# EAGLE library part MPXV7025DP (library MPXV7025)
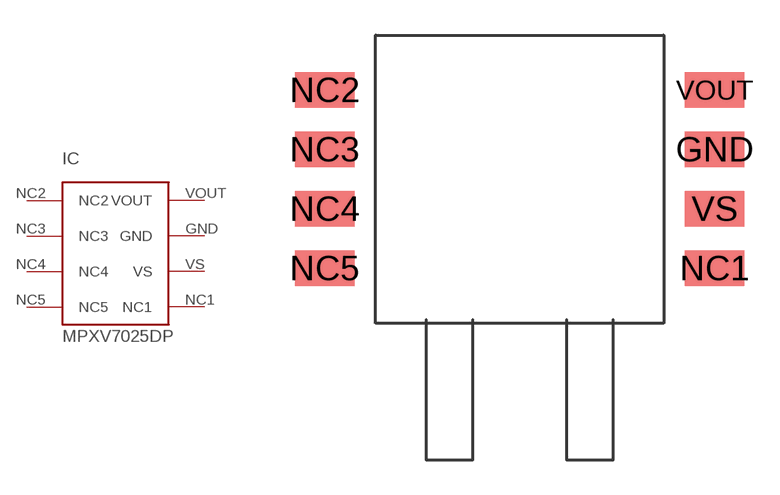
[diagram p0: symbol with the pads of CASE1351-01; footprint CASE1351-01]

Designator prefix IC

## MPXV7025DP  [CASE1351-01]
GND  GND
NC1  NC1
NC2  NC2
NC3  NC3
NC4  NC4
NC5  NC5
VOUT  VOUT
VS  VS

## Footprint CASE1351-01 (pad centres in mm)
smd 2.54 x 1.52: GND 8.335,1.27; NC1 8.335,-3.81; NC2 -8.335,3.81; NC3 -8.335,1.27; NC4 -8.335,-1.27; NC5 -8.335,-3.81; VOUT 8.335,3.81; VS 8.335,-1.27